# Altium integrated library ADNS-2620.IntLib: 1 symbol
Pins are listed as number, name and electrical type; pins without a type are passive.

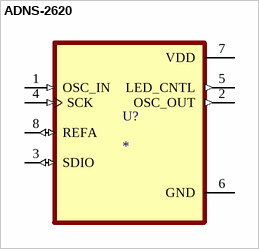
[diagram p0: symbol ADNS-2620]

## ADNS-2620
designator U?
Optical Sensor 8-DIP Module; MF: Broadcom Limited; MP: ADNS-2620; Price: None; SnapEDA_Link: https://www.snapeda.com/parts/ADNS-2620/Broadcom+Limited/view-part/?ref=snap; Check_prices: https://www.snapeda.com/parts/ADNS-2620/Broadcom+Limited/view-part/?ref=eda; Package: DIP-8 Broadcom Limited; Availability: Not in stock; Value: *
footprint ADNS-2610
pins: 1 OSC_IN (in), 2 OSC_OUT (out), 3 SDIO (io), 4 SCK (in), 5 LED_CNTL (out), 6 GND (power), 7 VDD (power), 8 REFA (io)